# Altium footprint library PH110UA.PcbLib: 1 footprints
Each footprint in its own frame and in the unit in brackets; x right, y up, seen from the top. Pads: shape width x height; smd on the part's side, far side on the other; paste and mask are expansions set on the pad; w line width, h text height; cw(c..) or ccw(c..) is an arc to the next point about the centre after c.
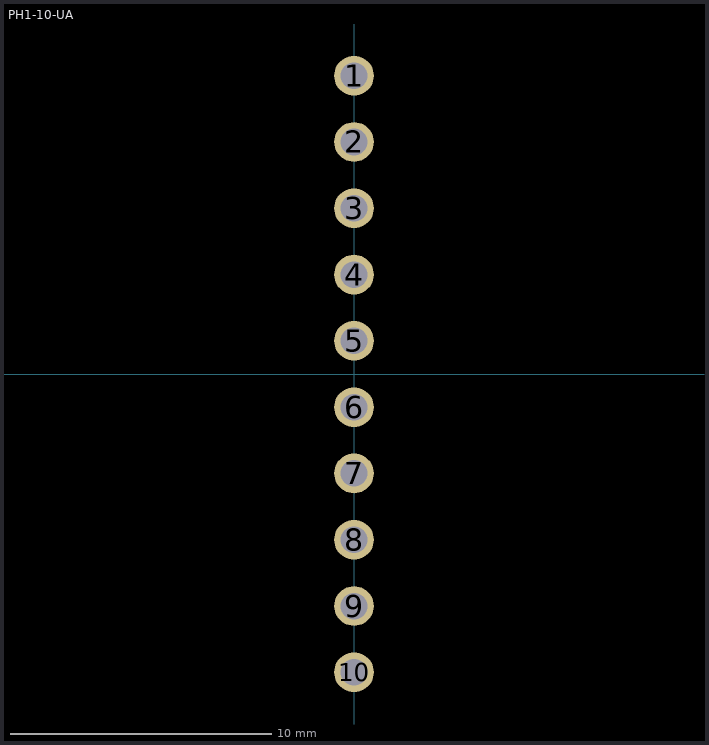
[diagram p0: the footprint, top view; thin cyan lines are the x and y axes]

## PH1-10-UA [mil]
pads (10):
  round 60 hole 40: 1(0,450) 2(0,350) 3(0,250) 4(0,150) 5(0,50) 6(0,-50) 7(0,-150) 8(0,-250) 9(0,-350) 10(0,-450)
3D body: height 334.65, standoff 98.43, extent -12.49,-462.57 12.6,-437.42
3D body: height 334.65, standoff 98.43, extent -12.49,437.43 12.6,462.58
3D body: height 98.43, standoff 0, extent -55,-505 55,505
3D body: height 334.65, standoff 98.43, extent -12.49,337.43 12.6,362.58
3D body: height 334.65, standoff 98.43, extent -12.49,237.43 12.6,262.58
3D body: height 334.65, standoff 98.43, extent -12.49,137.43 12.6,162.58
3D body: height 334.65, standoff 98.43, extent -12.49,37.43 12.6,62.58
3D body: height 334.65, standoff 98.43, extent -12.49,-62.57 12.6,-37.42
3D body: height 334.65, standoff 98.43, extent -12.49,-162.57 12.6,-137.42
3D body: height 334.65, standoff 98.43, extent -12.49,-262.57 12.6,-237.42
3D body: height 334.65, standoff 98.43, extent -12.49,-362.57 12.6,-337.42